# EAGLE library part XFBMC29 (library collin)
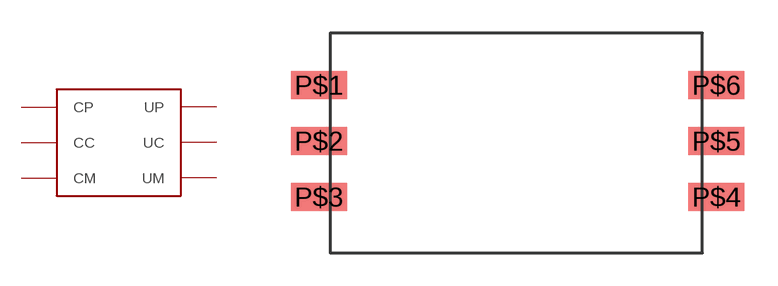
[diagram p18: symbol with the pads of XFBMC29; footprint XFBMC29]

Designator prefix -

## XFBMC29  [XFBMC29]
P$1  CP
P$2  CC
P$3  CM
P$4  UM
P$5  UC
P$6  UP

## Footprint XFBMC29 (pad centres in mm)
smd 2.54 x 1.27: P$1 -0.508,7.62; P$2 -0.508,5.08; P$3 -0.508,2.54; P$4 17.526,2.54; P$5 17.526,5.08; P$6 17.526,7.62